# Altium schematic symbol library GENERIC_NPN.SchLib: 1 symbol
Pins are listed as number, name and electrical type; pins without a type are passive.

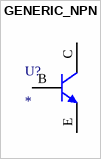
[diagram p0: symbol GENERIC_NPN]

## GENERIC_NPN
designator U?
pins: B, C, E